# Altium footprint library WiFi_Lib.PcbLib: 42 footprints (part 3 of 3)
Each footprint in its own frame and in the unit in brackets; x right, y up, seen from the top. Pads: shape width x height; smd on the part's side, far side on the other; paste and mask are expansions set on the pad; w line width, h text height; cw(c..) or ccw(c..) is an arc to the next point about the centre after c.
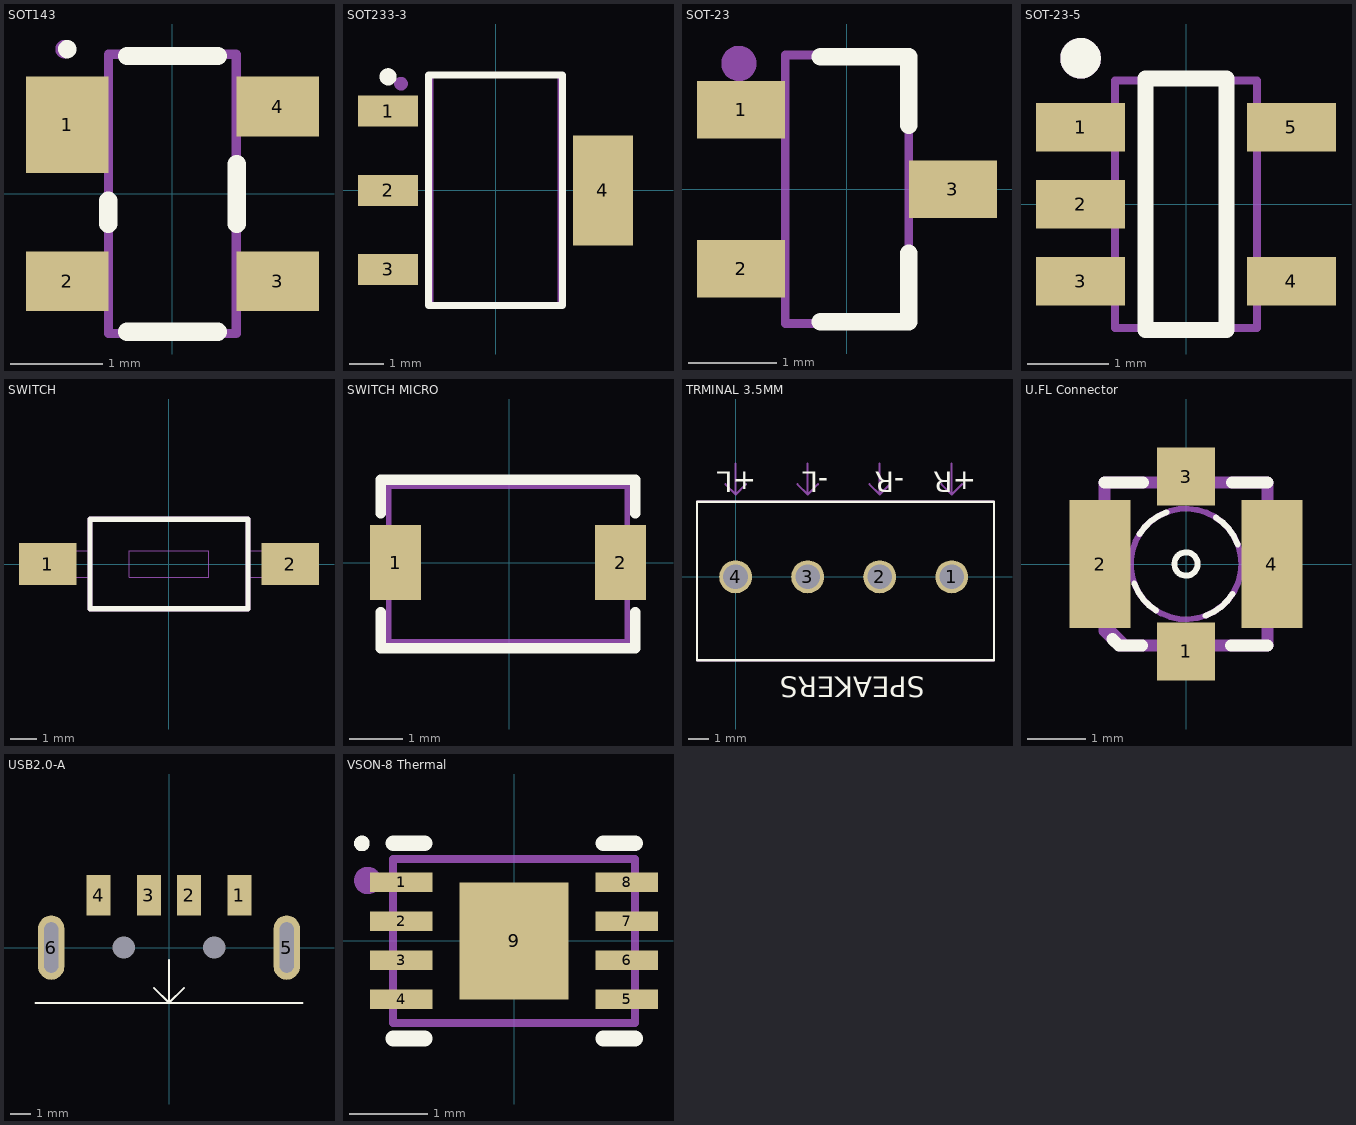
[diagram p2: the footprints below, top view; thin cyan lines are the x and y axes]

## SOT143 [mm] "SOT143, 4-Leads, Body 2.92x2.29mm, Pitch 1.90mm, IPC Medium Density"
height 1.14
pads (4):
  rect 0.9x1.05 smd: 1(-1.145,0.75)
  rect 0.9x0.65 smd: 2(-1.145,-0.95) 3(1.145,-0.95) 4(1.145,0.95)
Top Overlay:
  circle w0.1: c-1.145,1.575 r0.05
  lines w0.2: -0.7,-0.325 -0.7,-0.075 ; -0.495,-1.5 0.495,-1.5 ; -0.495,1.5 0.495,1.5 ; 0.7,-0.325 0.7,0.325
Mechanical 13:
  circle w0.1: c-1.175,1.575 r0.05
  lines w0.1: -0.695,-1.52 0.695,-1.52 0.695,1.52 -0.695,1.52 -0.695,-1.52
  text "'.Designator'" at 0.575,-1.05 h1
3D body "SOT143.step": height 1.14, standoff 0, extent -1.198,-1.52 1.198,1.52

## SOT233-3 [mm] "SOT223, 4-Leads, Body 6.50x7.00mm (avg), Pitch 2.30mm, IPC Medium Density"
height 1.8
pads (4):
  rect 1.75x0.9 smd: 1(-3.125,2.3) 2(-3.125,0) 3(-3.125,-2.3)
  rect 1.75x3.2 smd: 4(3.125,0)
Top Overlay:
  circle w0.25: c-3.125,3.3 r0.125
  lines w0.2: -1.95,-3.35 1.95,-3.35 1.95,3.35 -1.95,3.35 -1.95,-3.35
Mechanical 13:
  circle w0.2: c-2.75,3.1 r0.1
  lines w0.1: -1.85,-3.35 1.85,-3.35 1.85,3.35 -1.85,3.35 -1.85,-3.35
  text "'.Designator'" at -1.375,-0.525 h1.5
3D body "SOT233-3.step": height 1.8, standoff 0, extent -3.5,-3.35 3.5,3.35

## SOT-23 [mm] "SOT23, 3-Leads, Body 2.92x2.37mm, Pitch 0.90mm, IPC Medium Density"
height 1.12
pads (3):
  rect 1x0.65 smd: 1(-1.2,0.9) 2(-1.2,-0.9) 3(1.2,0)
Top Overlay:
  lines w0.2: -0.3,-1.5 0.7,-1.5 0.7,-0.725 ; -0.3,1.5 0.7,1.5 0.7,0.725
Mechanical 13:
  circle w0.2: c-1.225,1.425 r0.1
  lines w0.1: -0.7,-1.52 -0.7,1.52 0.7,1.52 0.7,-1.52 -0.7,-1.52
  text "'.Designator'" at 0.5,-1.225 h1
3D body "SOT-23.step": height 1.12, standoff 0, extent -1.32,-1.52 1.32,1.52

## SOT-23-5 [mm] "SOT23, 5-Leads, Body 2.90x2.80mm, Pitch 0.95mm, IPC Medium Density"
height 1.45
pads (5):
  rect 1.1x0.6 smd: 1(-1.3,0.95) 2(-1.3,0) 3(-1.3,-0.95) 4(1.3,-0.95) 5(1.3,0.95)
Top Overlay:
  circle w0.25: c-1.3,1.8 r0.125
  lines w0.2: -0.5,-1.55 0.5,-1.55 0.5,1.55 -0.5,1.55 -0.5,-1.55
Mechanical 13:
  circle w0.25: c-1.3,1.8 r0.125
  lines w0.1: -0.875,-1.525 -0.875,1.525 0.875,1.525 0.875,-1.525 -0.875,-1.525
  text "'.Designator'" at 0.5,-1.2 h1
3D body "SOT-23-5.step": height 1.45, standoff 0, extent -1.5,-1.525 1.5,1.525

## SWITCH [mm]
pads (2):
  rect 2.18x1.6 smd: 1(-4.6,0) 2(4.6,0)
Top Overlay:
  lines w0.2: -3,-1.7 3,-1.7 3,1.7 -3,1.7 -3,-1.7
Mechanical 1:
  lines w0: -3,-0.5 -4.7,-0.5 -4.7,0.5 -3,0.5 ; 3,-0.5 4.7,-0.5 4.7,0.5 3,0.5 ; -3,-1.7 -3,1.7 3,1.7 3,-1.7 -3,-1.7 ; -1.5,-0.5 -1.5,0.5 1.5,0.5 1.5,-0.5 -1.5,-0.5
Mechanical 13:
  lines w0.2: -3,-1.7 3,-1.7 3,1.7 -3,1.7 -3,-1.7
  text "'.Designator'" at -1.5,-0.5 h1.2
3D body: height 3.5, standoff 0, extent -3.1,-1.8 3.1,1.8
3D body: height 0.1, standoff 0, extent -4.699,-0.499 -3.001,0.499
3D body: height 4.1, standoff 3.5, extent -1.499,-0.499 1.499,0.499
3D body: height 0.1, standoff 0, extent 3.001,-0.499 4.699,0.499

## SWITCH MICRO [mm]
pads (2):
  rect 0.95x1.4 smd: 1(-2.125,0) 2(2.075,0)
Top Overlay:
  lines w0.2: -2.4,-0.925 -2.4,-1.6 2.35,-1.6 2.35,-0.925 ; -2.4,0.925 -2.4,1.55 2.35,1.55 2.35,0.925
Mechanical 13:
  lines w0.1: -2.25,-1.475 2.2,-1.475 2.2,1.425 -2.25,1.425 -2.25,-1.475
  text "'.Designator'" at -0.675,-0.425 h1
3D body "PTS820J25MSMTRLFS.stp": height 2.05, standoff 0.05, extent -2.275,-1.475 2.225,1.425

## TRMINAL 3.5MM [mm]
pads (4):
  round 1.6 hole 1.2: 1(10.5,0) 2(7,0) 3(3.5,0) 4(0,0)
Top Overlay:
  lines w0.1: -1.875,-4.05 12.55,-4.05 12.55,3.65 -1.875,3.65 -1.875,-4.05
  text "+L" at 1,5.1 h1
  text "-L" at 4.5,5.1 h1
  text "-R" at 8.2,5.1 h1
  text "+R" at 11.7,5.1 h1
  text "SPEAKERS" at 9.2,-4.85 h1
Mechanical 13:
  lines w0.1: -0.5,4.5 0,4 ; 0,5.5 0,4 ; 0.5,4.5 0,4 ; 3,4.5 3.5,4 ; 3.5,5.5 3.5,4 ; 4,4.5 3.5,4 ; 6.5,4.5 7,4 ; 7,5.5 7,4 ; 7.5,4.5 7,4 ; 10,4.5 10.5,4 ; 10.5,5.5 10.5,4 ; 11,4.5 10.5,4 ; 0,4 0,4 ; 3.5,4 3.5,4 ; 7,4 7,4 ; 10.5,4 10.5,4 ; -1.875,-4.05 -1.875,3.65 12.55,3.65 12.55,-4.05 -1.875,-4.05
  text "'.Designator'" at 3.625,-0.4 h1
3D body "393570004.stp": height 8.51, standoff -3.51, extent -1.66,-3.865 12.31,3.425

## U.FL Connector [mm]
pads (4):
  rect 1x1 smd: 1(0,-1.5) 3(0,1.5)
  rect 1.05x2.2 smd: 2(-1.475,0) 4(1.475,0)
Top Overlay:
  circle w0.102: c0,0 r0.2
  lines w0.102: -0.888,-0.336 ccw(c-0.026,-0.023) -0.512,-0.8 ; -0.8,0.512 cw(c-0.023,0.026) -0.336,0.888 ; 0.336,-0.888 ccw(c0.023,-0.026) 0.8,-0.512 ; 0.512,0.8 cw(c0.026,0.023) 0.888,0.336
  lines w0.203: -1.4,1.4 -0.737,1.4 ; -1.262,-1.288 -1.15,-1.4 -0.75,-1.4 ; 0.775,-1.4 1.4,-1.4 ; 0.787,1.4 1.4,1.4
Mechanical 4:
  circle w0.102: c0,0 r0.95
  circle w0.102: c0,0 r0.95
  region: -0.3,-1.5 0.3,-1.5 0.3,-1.8 -0.3,-1.8
  region: -0.3,1.8 0.3,1.8 0.3,1.5 -0.3,1.5
  region: 1.35,0.9 1.8,0.9 1.8,-0.9 1.35,-0.9
  region: -1.8,0.9 -1.35,0.9 -1.35,-0.9 -1.8,-0.9
  region: -0.3,-1.5 0.3,-1.5 0.3,-1.8 -0.3,-1.8
  region: -0.3,1.8 0.3,1.8 0.3,1.5 -0.3,1.5
  region: 1.35,0.9 1.8,0.9 1.8,-0.9 1.35,-0.9
  region: -1.8,0.9 -1.35,0.9 -1.35,-0.9 -1.8,-0.9
  lines w0.203: -1.4,-1.15 -1.4,1.4 ; -1.4,-1.15 -1.15,-1.4 ; -1.4,-1.15 -1.4,1.4 ; -1.4,-1.15 -1.15,-1.4 ; -1.4,1.4 1.4,1.4 ; -1.4,1.4 1.4,1.4 ; -1.15,-1.4 1.4,-1.4 ; -1.15,-1.4 1.4,-1.4 ; 1.4,-1.4 1.4,1.4 ; 1.4,-1.4 1.4,1.4
Mechanical 13:
  lines w0.1: -1.425,-0.95 -1.425,1.4 1.375,1.4 1.375,-1.375 -1,-1.375 -1.425,-0.95
  text "'.Designator'" at -0.75,-0.375 h1
3D body "734120110.stp": height 1.3, standoff 0, extent -1.5,-1.54 1.5,1.54

## USB2.0-A [mm]
pads (8):
  rect 1.2x2 smd: 1(3.5,2.6) 2(1,2.6) 3(-1,2.6) 4(-3.5,2.6)
  oval 1.3x3.2 hole 0.7 slot 2.5 at 90 deg paste+0 mask+0: 5(5.85,0) 6(-5.85,0)
  round 0 hole 1.1 unplated paste+0 mask+0: ""(-2.25,0) ""(2.25,0)
Top Overlay:
  lines w0.1: -6.625,-2.75 0,-2.75 ; -0.75,-2 0,-2.75 ; 0,-0.625 0,-2.75 ; 0.75,-2 0,-2.75 ; 6.625,-2.75 0,-2.75 ; 0,-2.75 0,-2.75 ; 0,-2.75 0,-2.75
3D body "480372200.stp": height 2.11, standoff -2.39, extent -6.025,-17.775 6.025,3.175

## VSON-8 Thermal [mm] "VSON, 8-Leads, Body 2.00x3.00mm, Pitch 0.50mm, Thermal Pad 1.50x1.40mm, IPC Medium Density"
height 0.6
pads (9):
  rect 0.8x0.25 smd: 1(-1.445,0.75) 2(-1.445,0.25) 3(-1.445,-0.25) 4(-1.445,-0.75) 5(1.445,-0.75) 6(1.445,-0.25) 7(1.445,0.25) 8(1.445,0.75)
  rect 1.4x1.5 smd: 9(0,0)
Top Overlay:
  circle w0.1: c-1.95,1.25 r0.05
  lines w0.2: -1.55,-1.25 -1.145,-1.25 ; -1.55,1.25 -1.145,1.25 ; 1.145,-1.25 1.55,-1.25 ; 1.145,1.25 1.55,1.25
Mechanical 13:
  circle w0.2: c-1.875,0.775 r0.075
  lines w0.1: -1.55,-1.05 -1.55,1.05 1.55,1.05 1.55,-1.05 -1.55,-1.05
  text "'.Designator'" at -0.8,-0.4 h1
3D body "VSON-8 Thermal.step": height 0.6, standoff 0, extent -1.58,-1.05 1.58,1.05